# Altium integrated library ATMEGA32U4-AU.IntLib: 1 symbol
Pins are listed as number, name and electrical type; pins without a type are passive.

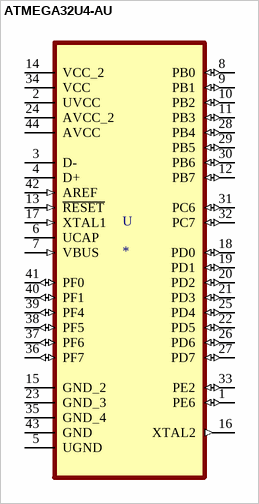
[diagram p0: symbol ATMEGA32U4-AU]

## ATMEGA32U4-AU
designator U
AVR AVRÂ® ATmega Microcontroller IC 8-Bit 16MHz 32KB _16K x 16_ FLASH 44-TQFP _10x10_; MP: ATMEGA32U4-AU; MF: Microchip Technology; Value: *; SnapEDA_Link: https://www.snapeda.com/parts/ATMEGA32U4-AU/Microchip/view-part/4251478/?ref=snap; Availability: Unavailable; Price: None; Package: TQFP-44 Microchip Technology
footprint QFP80P1200X1200X120-44N
pins: 1 PE6 (io), 2 UVCC (power), 3 D-, 4 D+, 5 UGND, 6 UCAP (power), 7 VBUS (in), 8 PB0 (io), 9 PB1 (io), 10 PB2 (io), 11 PB3 (io), 12 PB7 (io), 13 ~{RESET} (in), 14 VCC_2 (power), 15 GND_2, 16 XTAL2 (out), 17 XTAL1 (in), 18 PD0 (io), 19 PD1 (io), 20 PD2 (io), 21 PD3 (io), 22 PD5 (io), 23 GND_3, 24 AVCC_2 (power), 25 PD4 (io), 26 PD6 (io), 27 PD7 (io), 28 PB4 (io), 29 PB5 (io), 30 PB6 (io), 31 PC6 (io), 32 PC7 (io), 33 PE2 (io), 34 VCC (power), 35 GND_4, 36 PF7 (io), 37 PF6 (io), 38 PF5 (io), 39 PF4 (io), 40 PF1 (io), 41 PF0 (io), 42 AREF (in), 43 GND, 44 AVCC (power)